# EAGLE library part ISO1541 (library BMC components)
ISO1540, ISO1541 Low-Power Bidirectional I2C Isolators The ISO1540 and ISO1541 are low-power, bidirectional isolators that are compatible with I2C interfaces. Note that the ISO1540 has bidirectional SCL and SDA, while the ISO1541 has unidirectional SCL and bidirectional SDA. Datasheet: http://www.ti.com/lit/ds/symlink/iso1541.pdf Product page: http://www.ti.com/product/iso1541
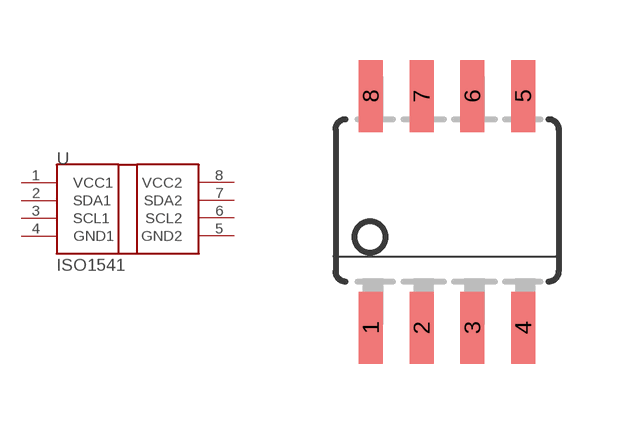
[diagram p11: symbol with the pads of SOIC8; footprint SOIC8]

Designator prefix -

## ISO1541  [SOIC8]
1  VCC1
2  SDA1
3  SCL1
4  GND1
5  GND2
6  SCL2
7  SDA2
8  VCC2

## Footprint SOIC8 (pad centres in mm)
SOIC-8/SO-8 This package is a bit wonky because it seems like different manufacturers make their devices in different widths? So the pads here are sized to be long enough to fit the SOIC-8 footprint here <http://glacier.lbl.gov/gtp/DOM/dataSheets/soic8_dim.pdf>, as well as the TI SO-8 footprint. edit 2013-12-27: not anymore, I shortened the pads -abk Be sure to check the width of your component before using this package!!!!
smd 0.6 x 1.8: 1 0.5,-2.9; 2 1.77,-2.9; 3 3.04,-2.9; 4 4.31,-2.9; 5 4.31,2.9; 6 3.04,2.9; 7 1.77,2.9; 8 0.5,2.9